# EAGLE library part TRELLIS_4X4_BUTTONS_BLM (library dadamachines)
Trellis Button Pads 4x4 matrix bar buttons
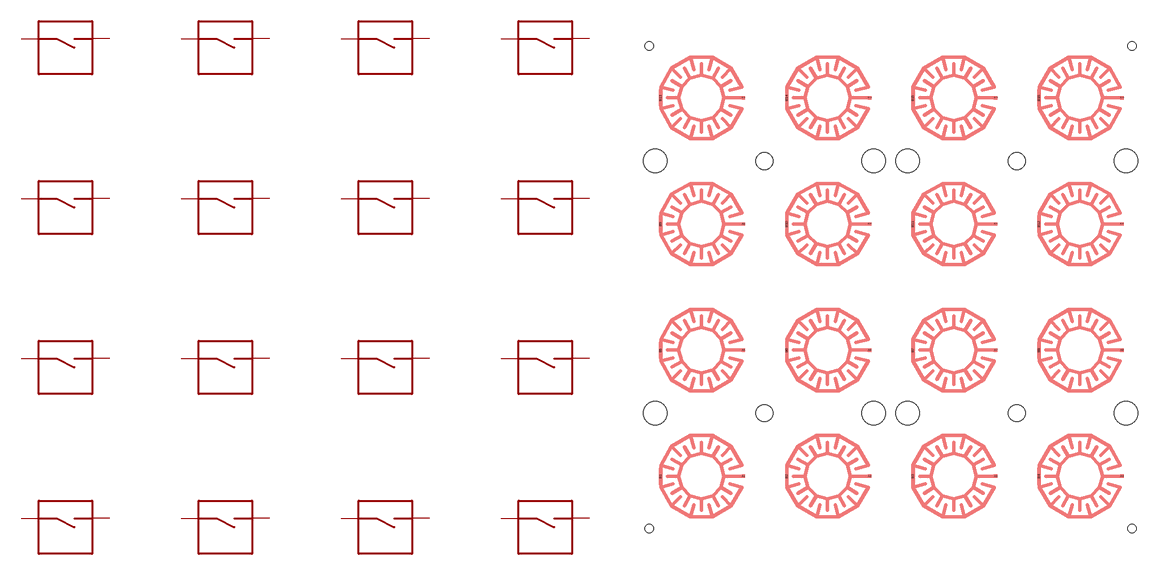
[diagram p6: symbol with the pads of ELAST_PAD_SQUARE_10MM_5.4MM_4X4GRID; footprint ELAST_PAD_SQUARE_10MM_5.4MM_4X4GRID]

Designator prefix B

## TRELLIS_4X4_BUTTONS_BLM  [ELAST_PAD_SQUARE_10MM_5.4MM_4X4GRID]
A1  P$1
A2  P$3
A3  P$5
A4  P$7
A5  P$9
A6  P$11
A7  P$13
A8  P$15
A9  P$17
A10  P$19
A11  P$21
A12  P$23
A13  P$25
A14  P$27
A15  P$29
A16  P$31
B1  P$2
B2  P$4
B3  P$6
B4  P$8
B5  P$10
B6  P$12
B7  P$14
B8  P$16
B9  P$18
B10  P$20
B11  P$22
B12  P$24
B13  P$26
B14  P$28
B15  P$30
B16  P$32

## Footprint ELAST_PAD_SQUARE_10MM_5.4MM_4X4GRID (pad centres in mm)
smd 0.4 x 0.4: A1 -17.5,-22.5; A2 -2.5,-22.5; A3 12.5,-22.5; A4 27.5,-22.5; A5 -17.5,-7.5; A6 -2.5,-7.5; A7 12.5,-7.5; A8 27.5,-7.5; A9 -17.5,7.5; A10 -2.5,7.5; A11 12.5,7.5; A12 27.5,7.5; A13 -17.5,22.5; A14 -2.5,22.5; A15 12.5,22.5; A16 27.5,22.5
smd 0.4 x 2: B1 -27.33,-22.51; B2 -12.33,-22.51; B3 2.67,-22.51; B4 17.67,-22.51; B5 -27.33,-7.51; B6 -12.33,-7.51; B7 2.67,-7.51; B8 17.67,-7.51; B9 -27.33,7.49; B10 -12.33,7.49; B11 2.67,7.49; B12 17.67,7.49; B13 -27.33,22.49; B14 -12.33,22.49; B15 2.67,22.49; B16 17.67,22.49
hole 2.8 at -28,-15
hole 2.8 at -2,-15
hole 2.8 at 28,-15
hole 2.8 at -28,15
hole 2.8 at -2,15
hole 2.8 at 2,15
hole 2.8 at 28,15
hole 1 at -28.7,-28.7
hole 1 at 28.7,-28.7
hole 2.8 at 2,-15
hole 1 at 28.7,28.7
hole 1 at -28.7,28.7
hole 2 at -15,15
hole 2 at 15,15
hole 2 at 15,-15
hole 2 at -15,-15